# Altium footprint library UHD1110FKACL1A13r3q1BBQFMF3.PcbLib: 1 footprints
Each footprint in its own frame and in the unit in brackets; x right, y up, seen from the top. Pads: shape width x height; smd on the part's side, far side on the other; paste and mask are expansions set on the pad; w line width, h text height; cw(c..) or ccw(c..) is an arc to the next point about the centre after c.
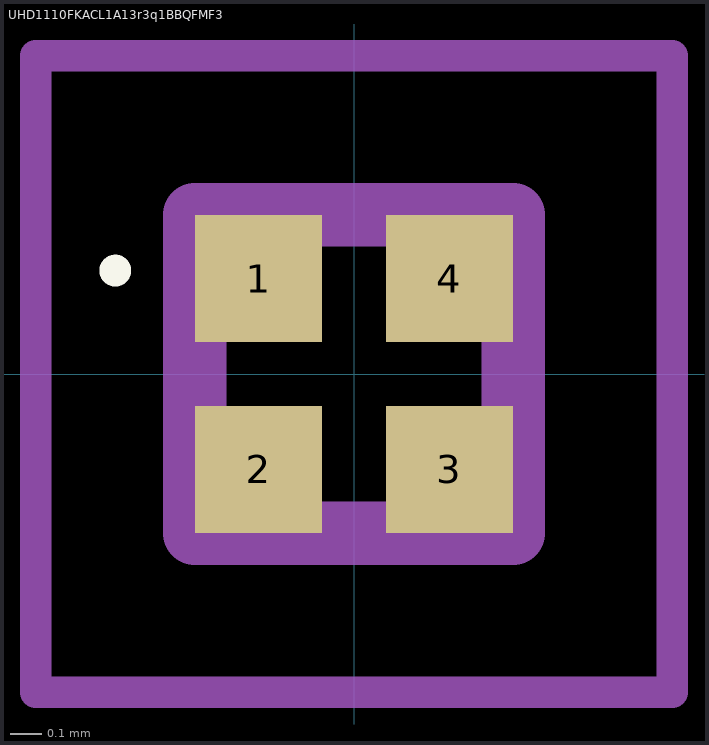
[diagram p0: the footprint, top view; thin cyan lines are the x and y axes]

## UHD1110FKACL1A13r3q1BBQFMF3 [mm]
pads (4):
  rect 0.4x0.4 smd: 1(-0.3,0.3) 2(-0.3,-0.3) 3(0.3,-0.3) 4(0.3,0.3)
Top Overlay:
  lines w0.05: -0.75,0.3 cw(c-0.75,0.325) -0.75,0.35 ; -0.75,0.3 -0.75,0.3 ; -0.75,0.3 ccw(c-0.75,0.325) -0.75,0.35 ; -0.75,0.35 -0.75,0.35
Mechanical 15:
  lines w0.2: -0.5,-0.5 0.5,-0.5 0.5,0.5 -0.5,0.5 -0.5,-0.5
Mechanical 20:
  lines w0.1: -1,-1 1,-1 1,1 -1,1 -1,-1